# Altium schematic symbol library Sch_Integral.SchLib: 8 symbols
Pins are listed as number, name and electrical type; pins without a type are passive.

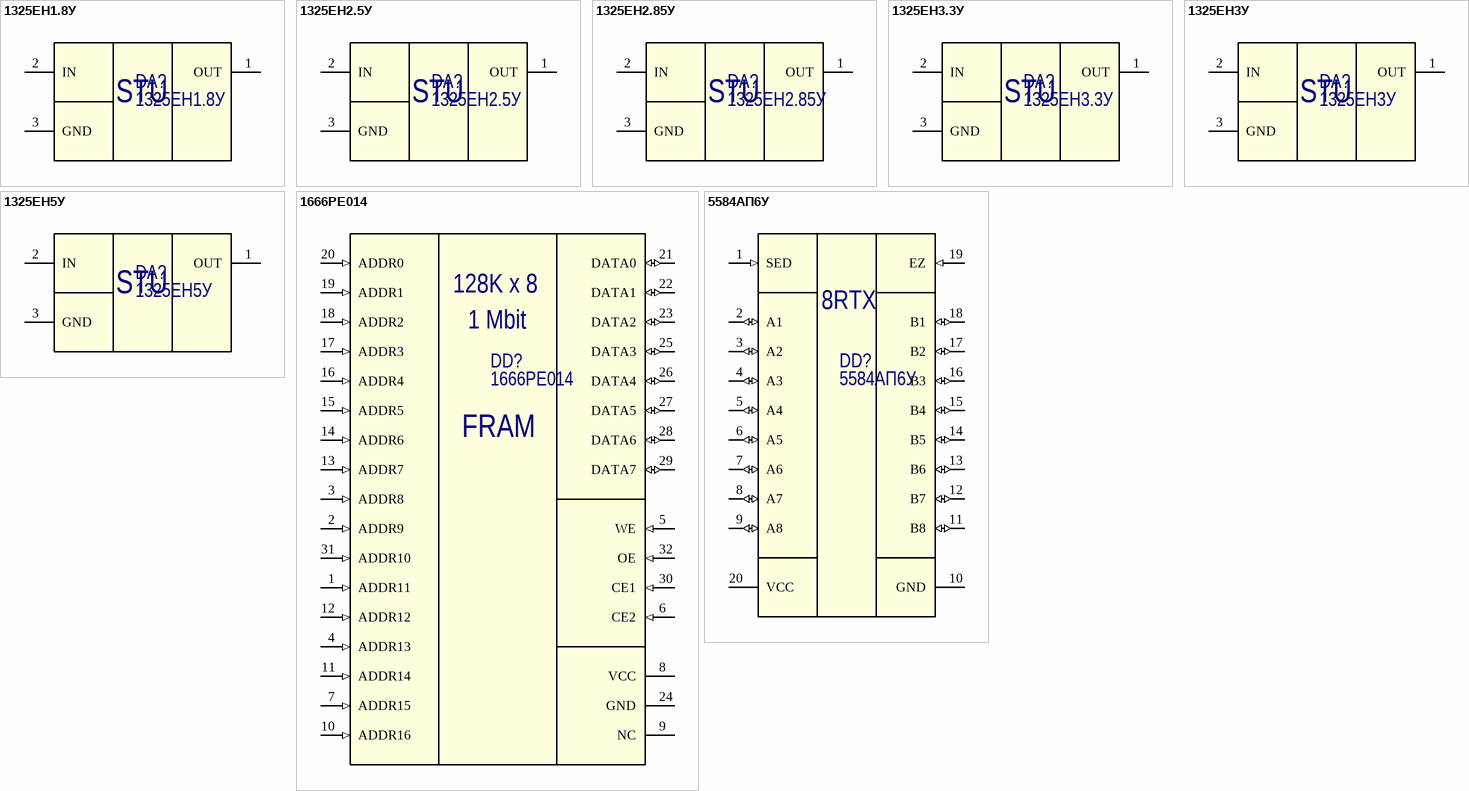
[diagram p0: symbols 1325ЕН1.8У to 5584АП6У]

## 1325ЕН1.8У
designator DA?
Непрерывный стабилизатор с фиксированным выходным напряжением положительной полярности; Manufacturer: ОАО "Интеграл"; ТУ: АЕЯР.431420.762-01 ТУ; Part Number: 1325ЕН1.8У
footprint KT93-1
pins: 1 OUT (power), 2 IN (power), 3 GND (power)
text: STU

## 1325ЕН2.5У
designator DA?
Непрерывный стабилизатор с фиксированным выходным напряжением положительной полярности; Manufacturer: ОАО "Интеграл"; ТУ: АЕЯР.431420.762-01 ТУ; Part Number: 1325ЕН2.5У
footprint KT93-1
pins: 1 OUT (power), 2 IN (power), 3 GND (power)
text: STU

## 1325ЕН2.85У
designator DA?
Непрерывный стабилизатор с фиксированным выходным напряжением положительной полярности; Manufacturer: ОАО "Интеграл"; ТУ: АЕЯР.431420.762-01 ТУ; Part Number: 1325ЕН2.85У
footprint KT93-1
pins: 1 OUT (power), 2 IN (power), 3 GND (power)
text: STU

## 1325ЕН3.3У
designator DA?
Непрерывный стабилизатор с фиксированным выходным напряжением положительной полярности; Manufacturer: ОАО "Интеграл"; ТУ: АЕЯР.431420.762-01 ТУ; Part Number: 1325ЕН3.3У
footprint KT93-1
pins: 1 OUT (power), 2 IN (power), 3 GND (power)
text: STU

## 1325ЕН3У
designator DA?
Непрерывный стабилизатор с фиксированным выходным напряжением положительной полярности; Manufacturer: ОАО "Интеграл"; ТУ: АЕЯР.431420.762-01 ТУ; Part Number: 1325ЕН3У
footprint KT93-1
pins: 1 OUT (power), 2 IN (power), 3 GND (power)
text: STU

## 1325ЕН5У
designator DA?
Непрерывный стабилизатор с фиксированным выходным напряжением положительной полярности; Manufacturer: ОАО "Интеграл"; ТУ: АЕЯР.431420.762-01 ТУ; Part Number: 1325ЕН5У
footprint KT93-1
pins: 1 OUT (power), 2 IN (power), 3 GND (power)
text: STU

## 1666РЕ014
designator DD?
F-RAM 1Mb (128K x 8 bit); Manufacturer: ОАО "Интеграл"; ТУ: АЕЯР.431220.981 ТУ; Part Number: 1666РЕ014
footprint 4184.32-1
pins: 1 ADDR11 (in), 2 ADDR9 (in), 3 ADDR8 (in), 4 ADDR13 (in), 5 WE (in), 6 CE2 (in), 7 ADDR15 (in), 8 VCC (power), 9 NC, 10 ADDR16 (in), 11 ADDR14 (in), 12 ADDR12 (in), 13 ADDR7 (in), 14 ADDR6 (in), 15 ADDR5 (in), 16 ADDR4 (in), 17 ADDR3 (in), 18 ADDR2 (in), 19 ADDR1 (in), 20 ADDR0 (in), 21 DATA0 (io), 22 DATA1 (io), 23 DATA2 (io), 24 GND (power), 25 DATA3 (io), 26 DATA4 (io), 27 DATA5 (io), 28 DATA6 (io), 29 DATA7 (io), 30 CE1 (in), 31 ADDR10 (in), 32 OE (in)
text: 128K x 8; 1 Mbit; FRAM

## 5584АП6У
designator DD?
Восьмиканальный двунаправленный приёмо-передатчик с / тремя состояниями на выходе; Manufacturer: ОАО "Интеграл"; Part Number: 5584АП6У; ТУ: *
footprint 5121.20-A
pins: 1 SED (in), 2 A1 (io), 3 A2 (io), 4 A3 (io), 5 A4 (io), 6 A5 (io), 7 A6 (io), 8 A7 (io), 9 A8 (io), 10 GND (power), 11 B8 (io), 12 B7 (io), 13 B6 (io), 14 B5 (io), 15 B4 (io), 16 B3 (io), 17 B2 (io), 18 B1 (io), 19 EZ (in), 20 VCC (power)
text: 8RTX